# EAGLE library part TRU-FOOT_LFO_V1.1 (library PedalSync_Module_Footprint_Library_v2)
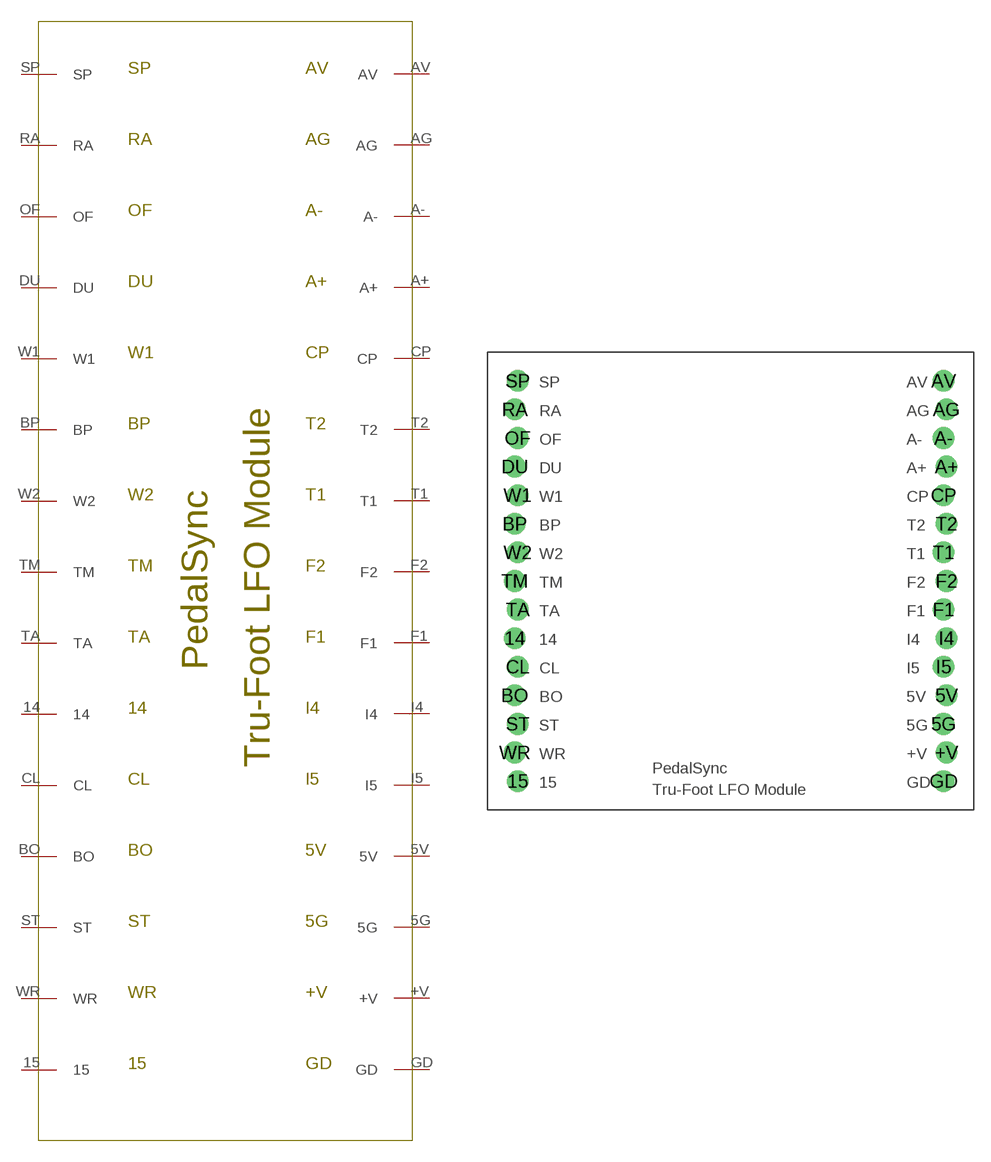
[diagram p1: symbol with the pads of TRU-FOOT_LFO_V1.1; footprint TRU-FOOT_LFO_V1.1]

Designator prefix -

## TRU-FOOT_LFO_V1.1  [TRU-FOOT_LFO_V1.1]
5G  5G
5V  5V
14  14
15  15
+V  +V
A+  A+
A-  A-
AG  AG
AV  AV
BO  BO
BP  BP
CL  CL
CP  CP
DU  DU
F1  F1
F2  F2
GD  GD
I4  I4
I5  I5
OF  OF
RA  RA
SP  SP
ST  ST
T1  T1
T2  T2
TA  TA
TM  TM
W1  W1
W2  W2
WR  WR

## Footprint TRU-FOOT_LFO_V1.1 (pad centres in mm)
drill 0.9 pad 1.93 round: 5G 40.513,7.62; 5V 40.767,10.16; 14 2.413,15.24; 15 2.667,2.54; +V 40.767,5.08; A+ 40.767,30.48; A- 40.513,33.02; AG 40.767,35.56; AV 40.513,38.1; BO 2.413,10.16; BP 2.413,25.4; CL 2.667,12.7; CP 40.513,27.94; DU 2.413,30.48; F1 40.513,17.78; F2 40.767,20.32; GD 40.513,2.54; I4 40.767,15.24; I5 40.513,12.7; OF 2.667,33.02; RA 2.413,35.56; SP 2.667,38.1; ST 2.667,7.62; T1 40.513,22.86; T2 40.767,25.4; TA 2.667,17.78; TM 2.413,20.32; W1 2.667,27.94; W2 2.667,22.86; WR 2.413,5.08